# Altium schematic symbol library SCH - POWER - SWITCHMODE - TI TPS65310A-Q1RVJ.SchLib: 1 symbol
Pins are listed as number, name and electrical type; pins without a type are passive.

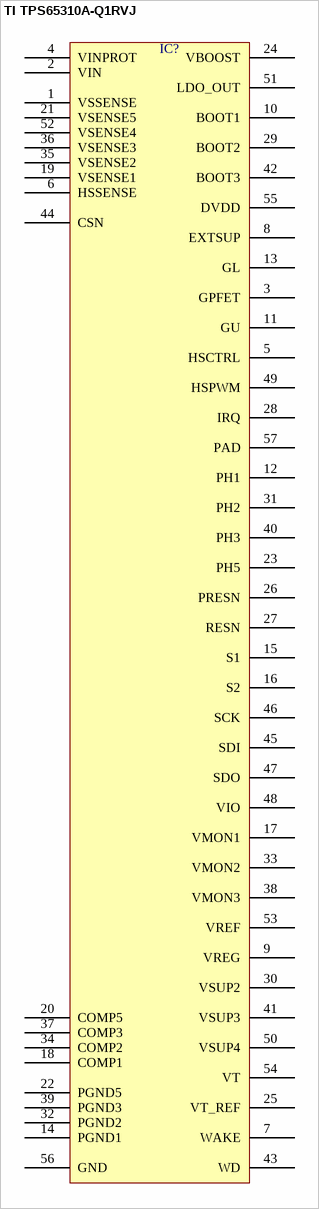
[diagram p0: symbol TI TPS65310A-Q1RVJ]

## TI TPS65310A-Q1RVJ
designator IC?  (value not drawn)
pins: 1 VSSENSE, 2 VIN, 3 GPFET, 4 VINPROT, 5 HSCTRL, 6 HSSENSE, 7 WAKE, 8 EXTSUP, 9 VREG, 10 BOOT1, 11 GU, 12 PH1, 13 GL, 14 PGND1, 15 S1, 16 S2, 17 VMON1, 18 COMP1, 19 VSENSE1, 20 COMP5, 21 VSENSE5, 22 PGND5, 23 PH5, 24 VBOOST, 25 VT_REF, 26 PRESN, 27 RESN, 28 IRQ, 29 BOOT2, 30 VSUP2, 31 PH2, 32 PGND2, 33 VMON2, 34 COMP2, 35 VSENSE2, 36 VSENSE3, 37 COMP3, 38 VMON3, 39 PGND3, 40 PH3, 41 VSUP3, 42 BOOT3, 43 WD, 44 CSN, 45 SDI, 46 SCK, 47 SDO, 48 VIO, 49 HSPWM, 50 VSUP4, 51 LDO_OUT, 52 VSENSE4, 53 VREF, 54 VT, 55 DVDD, 56 GND, 57 PAD